# EAGLE library part AD7327 (library custom_parts)
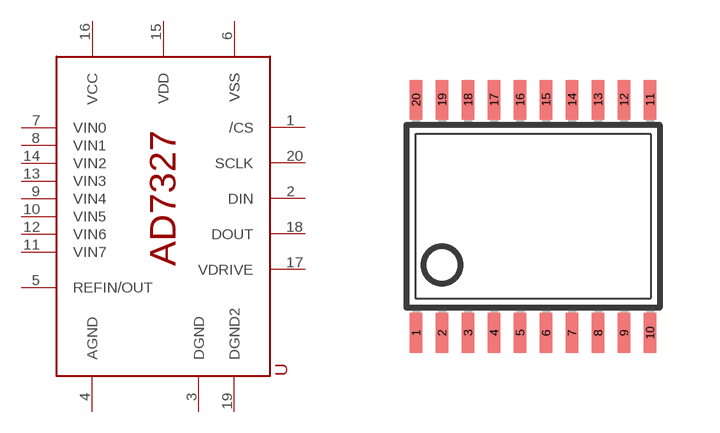
[diagram p1: symbol with the pads of TSSOP20; footprint TSSOP20]

Designator prefix -

## AD7327  [TSSOP20]
1  /CS
2  DIN
3  DGND
4  AGND
5  REFIN/OUT
6  VSS
7  VIN0
8  VIN1
9  VIN4
10  VIN5
11  VIN7
12  VIN6
13  VIN3
14  VIN2
15  VDD
16  VCC
17  VDRIVE  pwr
18  DOUT
19  DGND2
20  SCLK

## Footprint TSSOP20 (pad centres in mm)
Thin Shrink Small Outline Plastic 20 MAX3223-MAX3243.pdf
smd 0.305 x 0.991: 1 -2.925,-2.918; 2 -2.275,-2.918; 3 -1.625,-2.918; 4 -0.975,-2.918; 5 -0.325,-2.918; 6 0.325,-2.918; 7 0.975,-2.918; 8 1.625,-2.918; 9 2.275,-2.918; 10 2.925,-2.918; 11 2.925,2.918; 12 2.275,2.918; 13 1.625,2.918; 14 0.975,2.918; 15 0.325,2.918; 16 -0.325,2.918; 17 -0.975,2.918; 18 -1.625,2.918; 19 -2.275,2.918; 20 -2.925,2.918